# Altium footprint library 19inch.PCBLIB: 26 footprints (part 2 of 3)
Each footprint in its own frame and in the unit in brackets; x right, y up, seen from the top. Pads: shape width x height; smd on the part's side, far side on the other; paste and mask are expansions set on the pad; w line width, h text height; cw(c..) or ccw(c..) is an arc to the next point about the centre after c.
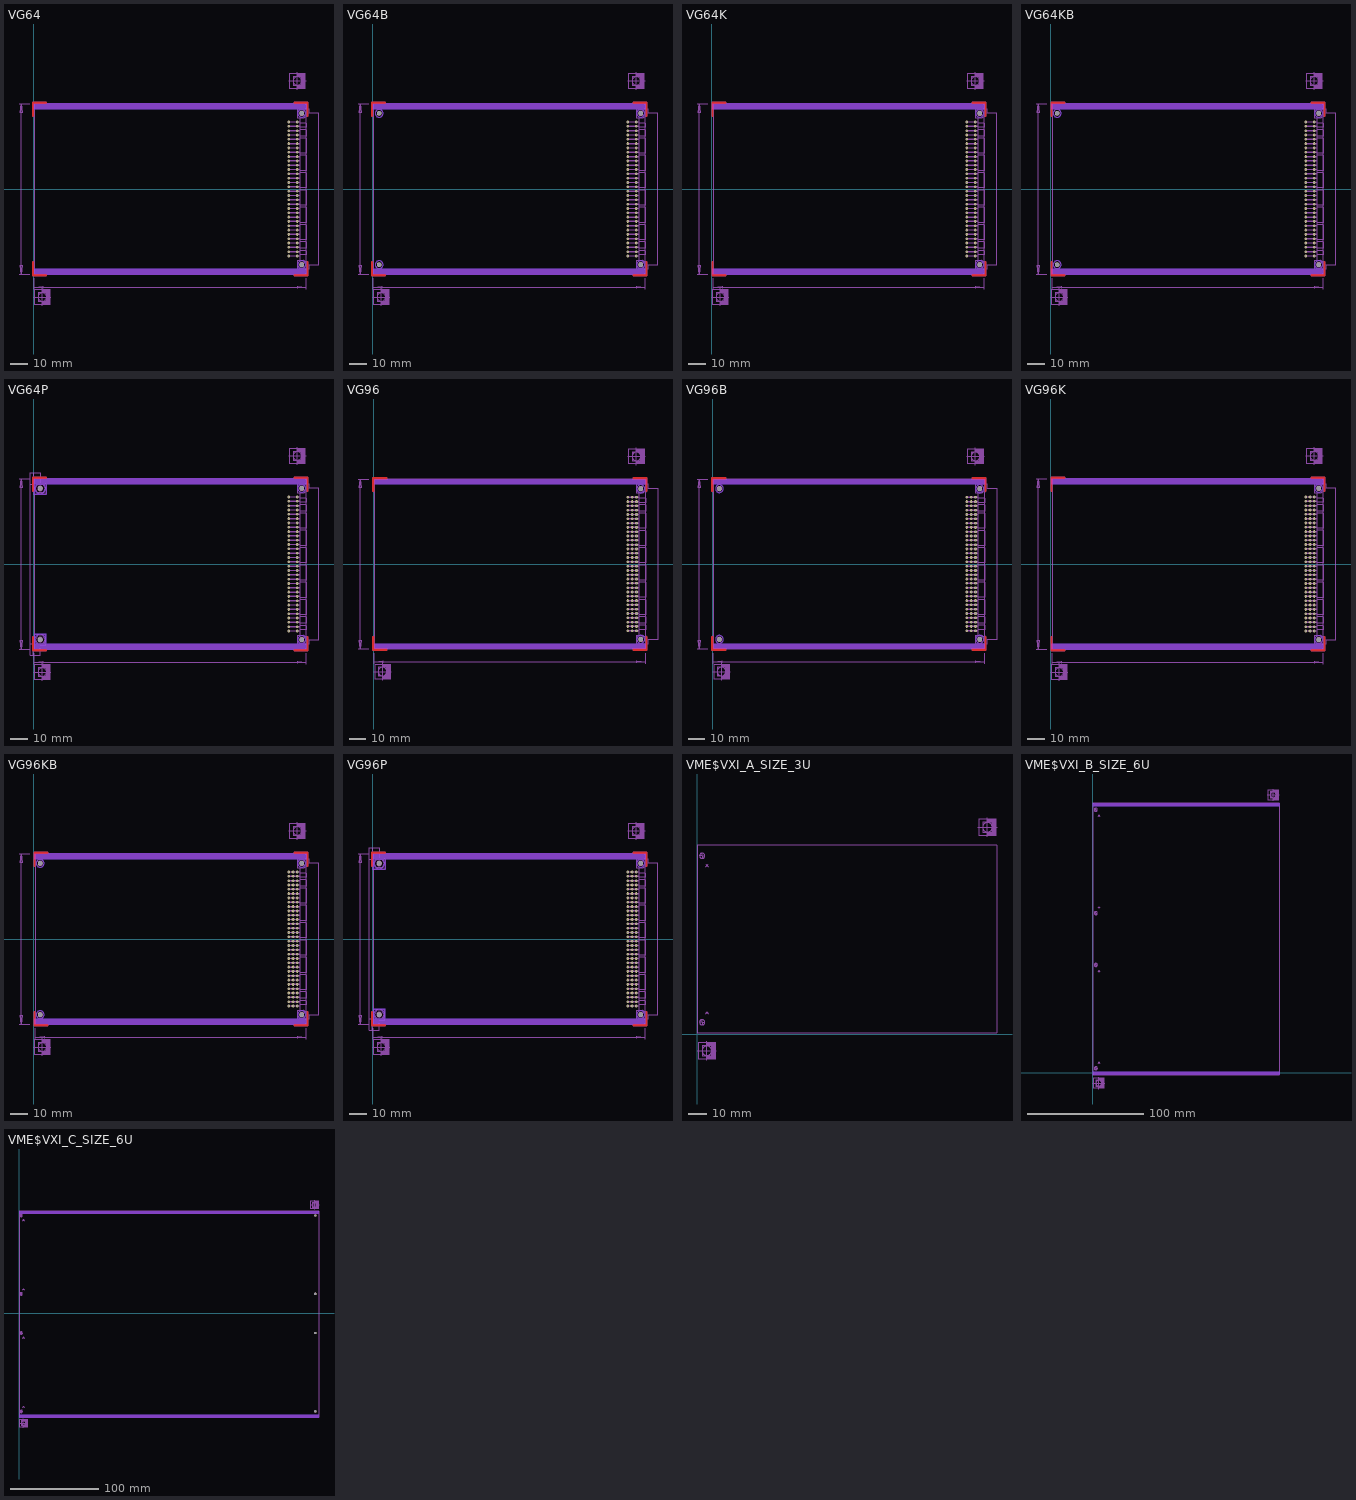
[diagram p1: the footprints below, top view; thin cyan lines are the x and y axes]

## VG64 [mil]
pads (66):
  round 63 hole 36: A1(6100,1550)
  oct 63x63 / inner round 58.2 / far side oct 63x63 hole 36: A2(6100,1450) A3(6100,1350) A4(6100,1250) A5(6100,1150) A6(6100,1050) A7(6100,950) A8(6100,850) A9(6100,750) A10(6100,650) A11(6100,550) A12(6100,450) A13(6100,350) A14(6100,250) A15(6100,150) A16(6100,50) A17(6100,-50) A18(6100,-150) A19(6100,-250) A20(6100,-350) A21(6100,-450) A22(6100,-550) A23(6100,-650) A24(6100,-750) A25(6100,-850) A26(6100,-950) A27(6100,-1050) A28(6100,-1150) A29(6100,-1250) A30(6100,-1350) A31(6100,-1450) A32(6100,-1550) C1(5900,1550) C2(5900,1450) C3(5900,1350) C4(5900,1250) C5(5900,1150) C6(5900,1050) C7(5900,950) C8(5900,850) C9(5900,750) C10(5900,650) C11(5900,550) C12(5900,450) C13(5900,350) C14(5900,250) C15(5900,150) C16(5900,50) C17(5900,-50) C18(5900,-150) C19(5900,-250) C20(5900,-350) C21(5900,-450) C22(5900,-550) C23(5900,-650) C24(5900,-750) C25(5900,-850) C26(5900,-950) C27(5900,-1050) C28(5900,-1150) C29(5900,-1250) C30(5900,-1350) C31(5900,-1450) C32(5900,-1550)
  round 110 hole 110 unplated: MH1(6200,1750) MH2(6200,-1750)
Top:
  lines w50: -15,-1694 -15,-1994 285,-1994 ; -15,1694 -15,1994 285,1994 ; 6035,-1994 6335,-1994 6335,-1694 ; 6035,1994 6335,1994 6335,1694
Top keep-out:
  circle w0: c6200,1750 r90
  circle w0: c6200,-1750 r90
  region: 10,1850 10,1969 6310,1969 6310,1850
  region: 10,-1969 10,-1850 6310,-1850 6310,-1969
  region: 10,1850 10,1969 6310,1969 6310,1850
  region: 10,-1969 10,-1850 6310,-1850 6310,-1969
  lines w2: 10,-1969 10,-1850 ; 10,1850 10,1969 ; 6310,-1969 6310,-1850 ; 6310,1850 6310,1969
Bottom:
  lines w50: -15,-1694 -15,-1994 285,-1994 ; -15,1694 -15,1994 285,1994 ; 6035,-1994 6335,-1994 6335,-1694 ; 6035,1994 6335,1994 6335,1694
Bottom keep-out:
  circle w0: c6200,1750 r90
  circle w0: c6200,-1750 r90
  region: 10,1850 10,1969 6310,1969 6310,1850
  region: 10,-1969 10,-1850 6310,-1850 6310,-1969
  lines w2: 10,-1969 10,-1850 ; 10,1850 10,1969 ; 6310,-1969 6310,-1850 ; 6310,1850 6310,1969
Top Solder:
  lines w6: 10,-1669 10,-1969 310,-1969 ; 10,1669 10,1969 310,1969 ; 6010,-1969 6310,-1969 6310,-1669 ; 6010,1969 6310,1969 6310,1669
Bottom Solder:
  lines w6: 10,-1669 10,-1969 310,-1969 ; 10,1669 10,1969 310,1969 ; 6010,-1969 6310,-1969 6310,-1669 ; 6010,1969 6310,1969 6310,1669
Dimension:
  lines w0: 10,-1969 6310,-1969 6310,1969 10,1969 10,-1969
tDocu:
  drawing of 64 lines, arcs and shapes, not listed
tPlace:
  drawing of 136 lines, arcs and shapes, not listed
  text "C" at 5900,1600 h77.5
  text "A" at 6050,1600 h77.5
  text "1" at 6200,1550 h77.5
  text "DIN 41612" at 6425,1050 h108.5
  text "Bauform C" at 6525,1050 h108.5
  text "32" at 6200,-1600 h77.5
Measures:
  lines w6: -340,-1969 -290,-1969 ; -340,1969 -290,1969 ; -90,-1969 -290,-1969 ; -90,1969 -290,1969 ; 10,-2319 10,-2269 ; 10,-2069 10,-2269 ; 10,-1669 10,-1969 310,-1969 ; 10,1669 10,1969 310,1969 ; 6010,-1969 6310,-1969 6310,-1669 ; 6010,1969 6310,1969 6310,1669 ; 6310,-2319 6310,-2269 ; 6310,-2069 6310,-2269 ; -290,-1969 -290,1969 ; -290,-1969 -315,-1769 -265,-1769 -290,-1969 ; -290,1969 -265,1769 -315,1769 -290,1969 ; 10,-2269 6310,-2269 ; 10,-2269 210,-2244 210,-2294 10,-2269 ; 6310,-2269 6110,-2294 6110,-2244 6310,-2269
  text "100 -0,3mm" at -340,-700 h155
  text "160 -0,3mm" at 2785,-2225 h155
Reference:
  circle w10: c6100,2499 r100
  circle w10: c200,-2499 r100
  region: 6100,2324 6100,2399 6275,2399 6275,2324
  region: 6200,2399 6200,2599 6275,2599 6275,2399
  region: 6100,2599 6100,2674 6275,2674 6275,2599
  region: 200,-2674 200,-2599 375,-2599 375,-2674
  region: 300,-2599 300,-2399 375,-2399 375,-2599
  region: 200,-2399 200,-2324 375,-2324 375,-2399
  lines w4: 0,-2499 25,-2499 400,-2499 ; 200,-2699 200,-2299 ; 5900,2499 5925,2499 6300,2499 ; 6100,2299 6100,2699
  lines w10: 25,-2674 375,-2674 375,-2324 25,-2324 25,-2499 25,-2674 ; 100,-2599 100,-2399 300,-2399 300,-2599 100,-2599 ; 5925,2324 6275,2324 6275,2674 5925,2674 5925,2499 5925,2324 ; 6000,2399 6000,2599 6200,2599 6200,2399 6000,2399

## VG64B [mil]
pads (68):
  round 63 hole 36: A1(6100,1550)
  oct 63x63 / inner round 58.2 / far side oct 63x63 hole 36: A2(6100,1450) A3(6100,1350) A4(6100,1250) A5(6100,1150) A6(6100,1050) A7(6100,950) A8(6100,850) A9(6100,750) A10(6100,650) A11(6100,550) A12(6100,450) A13(6100,350) A14(6100,250) A15(6100,150) A16(6100,50) A17(6100,-50) A18(6100,-150) A19(6100,-250) A20(6100,-350) A21(6100,-450) A22(6100,-550) A23(6100,-650) A24(6100,-750) A25(6100,-850) A26(6100,-950) A27(6100,-1050) A28(6100,-1150) A29(6100,-1250) A30(6100,-1350) A31(6100,-1450) A32(6100,-1550) C1(5900,1550) C2(5900,1450) C3(5900,1350) C4(5900,1250) C5(5900,1150) C6(5900,1050) C7(5900,950) C8(5900,850) C9(5900,750) C10(5900,650) C11(5900,550) C12(5900,450) C13(5900,350) C14(5900,250) C15(5900,150) C16(5900,50) C17(5900,-50) C18(5900,-150) C19(5900,-250) C20(5900,-350) C21(5900,-450) C22(5900,-550) C23(5900,-650) C24(5900,-750) C25(5900,-850) C26(5900,-950) C27(5900,-1050) C28(5900,-1150) C29(5900,-1250) C30(5900,-1350) C31(5900,-1450) C32(5900,-1550)
  round 110 hole 110 unplated: MH1(6200,1750) MH2(6200,-1750) MH3(150,-1750) MH4(150,1750)
Top:
  lines w50: -15,-1694 -15,-1994 285,-1994 ; -15,1694 -15,1994 285,1994 ; 6035,-1994 6335,-1994 6335,-1694 ; 6035,1994 6335,1994 6335,1694
Top keep-out:
  circle w0: c6200,1750 r90
  circle w0: c6200,-1750 r90
  circle w0: c150,-1750 r90
  circle w0: c150,1750 r90
  region: 10,1850 10,1969 6310,1969 6310,1850
  region: 10,-1969 10,-1850 6310,-1850 6310,-1969
  region: 10,1850 10,1969 6310,1969 6310,1850
  region: 10,-1969 10,-1850 6310,-1850 6310,-1969
  lines w2: 10,-1969 10,-1850 ; 10,1850 10,1969 ; 6310,-1969 6310,-1850 ; 6310,1850 6310,1969
Bottom:
  lines w50: -15,-1694 -15,-1994 285,-1994 ; -15,1694 -15,1994 285,1994 ; 6035,-1994 6335,-1994 6335,-1694 ; 6035,1994 6335,1994 6335,1694
Bottom keep-out:
  circle w0: c6200,1750 r90
  circle w0: c6200,-1750 r90
  circle w0: c150,-1750 r90
  circle w0: c150,1750 r90
  region: 10,1850 10,1969 6310,1969 6310,1850
  region: 10,-1969 10,-1850 6310,-1850 6310,-1969
  lines w2: 10,-1969 10,-1850 ; 10,1850 10,1969 ; 6310,-1969 6310,-1850 ; 6310,1850 6310,1969
Top Solder:
  lines w6: 10,-1669 10,-1969 310,-1969 ; 10,1669 10,1969 310,1969 ; 6010,-1969 6310,-1969 6310,-1669 ; 6010,1969 6310,1969 6310,1669
Bottom Solder:
  lines w6: 10,-1669 10,-1969 310,-1969 ; 10,1669 10,1969 310,1969 ; 6010,-1969 6310,-1969 6310,-1669 ; 6010,1969 6310,1969 6310,1669
Dimension:
  lines w0: 10,-1969 6310,-1969 6310,1969 10,1969 10,-1969
tDocu:
  drawing of 64 lines, arcs and shapes, not listed
tPlace:
  drawing of 136 lines, arcs and shapes, not listed
  text "C" at 5900,1600 h77.5
  text "A" at 6050,1600 h77.5
  text "1" at 6200,1550 h77.5
  text "DIN 41612" at 6425,1050 h108.5
  text "Bauform C" at 6525,1050 h108.5
  text "32" at 6200,-1600 h77.5
Measures:
  lines w6: -340,-1969 -290,-1969 ; -340,1969 -290,1969 ; -90,-1969 -290,-1969 ; -90,1969 -290,1969 ; 10,-2319 10,-2269 ; 10,-2069 10,-2269 ; 10,-1669 10,-1969 310,-1969 ; 10,1669 10,1969 310,1969 ; 6010,-1969 6310,-1969 6310,-1669 ; 6010,1969 6310,1969 6310,1669 ; 6310,-2319 6310,-2269 ; 6310,-2069 6310,-2269 ; -290,-1969 -290,1969 ; -290,-1969 -315,-1769 -265,-1769 -290,-1969 ; -290,1969 -265,1769 -315,1769 -290,1969 ; 10,-2269 6310,-2269 ; 10,-2269 210,-2244 210,-2294 10,-2269 ; 6310,-2269 6110,-2294 6110,-2244 6310,-2269
  text "100 -0,3mm" at -340,-700 h155
  text "160 -0,3mm" at 2785,-2225 h155
Reference:
  circle w10: c6100,2499 r100
  circle w10: c200,-2499 r100
  region: 6100,2324 6100,2399 6275,2399 6275,2324
  region: 6200,2399 6200,2599 6275,2599 6275,2399
  region: 6100,2599 6100,2674 6275,2674 6275,2599
  region: 200,-2674 200,-2599 375,-2599 375,-2674
  region: 300,-2599 300,-2399 375,-2399 375,-2599
  region: 200,-2399 200,-2324 375,-2324 375,-2399
  lines w4: 0,-2499 25,-2499 400,-2499 ; 200,-2699 200,-2299 ; 5900,2499 5925,2499 6300,2499 ; 6100,2299 6100,2699
  lines w10: 25,-2674 375,-2674 375,-2324 25,-2324 25,-2499 25,-2674 ; 100,-2599 100,-2399 300,-2399 300,-2599 100,-2599 ; 5925,2324 6275,2324 6275,2674 5925,2674 5925,2499 5925,2324 ; 6000,2399 6000,2599 6200,2599 6200,2399 6000,2399

## VG64K [mil]
pads (66):
  round 63 hole 36: A1(6100,1550)
  oct 63x63 / inner round 58.2 / far side oct 63x63 hole 36: A2(6100,1450) A3(6100,1350) A4(6100,1250) A5(6100,1150) A6(6100,1050) A7(6100,950) A8(6100,850) A9(6100,750) A10(6100,650) A11(6100,550) A12(6100,450) A13(6100,350) A14(6100,250) A15(6100,150) A16(6100,50) A17(6100,-50) A18(6100,-150) A19(6100,-250) A20(6100,-350) A21(6100,-450) A22(6100,-550) A23(6100,-650) A24(6100,-750) A25(6100,-850) A26(6100,-950) A27(6100,-1050) A28(6100,-1150) A29(6100,-1250) A30(6100,-1350) A31(6100,-1450) A32(6100,-1550) C1(5900,1550) C2(5900,1450) C3(5900,1350) C4(5900,1250) C5(5900,1150) C6(5900,1050) C7(5900,950) C8(5900,850) C9(5900,750) C10(5900,650) C11(5900,550) C12(5900,450) C13(5900,350) C14(5900,250) C15(5900,150) C16(5900,50) C17(5900,-50) C18(5900,-150) C19(5900,-250) C20(5900,-350) C21(5900,-450) C22(5900,-550) C23(5900,-650) C24(5900,-750) C25(5900,-850) C26(5900,-950) C27(5900,-1050) C28(5900,-1150) C29(5900,-1250) C30(5900,-1350) C31(5900,-1450) C32(5900,-1550)
  round 110 hole 110 unplated: MH1(6200,1750) MH2(6200,-1750)
Top:
  lines w50: 15,-1694 15,-1994 315,-1994 ; 15,1694 15,1994 315,1994 ; 6035,-1994 6335,-1994 6335,-1694 ; 6035,1994 6335,1994 6335,1694
Top keep-out:
  circle w0: c6200,-1750 r90
  circle w0: c6200,1750 r90
  region: 10,1850 10,1969 6310,1969 6310,1850
  region: 10,-1969 10,-1850 6310,-1850 6310,-1969
  region: 10,1850 10,1969 6310,1969 6310,1850
  region: 10,-1969 10,-1850 6310,-1850 6310,-1969
  lines w2: 40,-1969 40,-1850 ; 40,1850 40,1969 ; 6310,-1969 6310,-1850 ; 6310,1850 6310,1969
Bottom:
  lines w50: 15,-1694 15,-1994 315,-1994 ; 15,1694 15,1994 315,1994 ; 6035,-1994 6335,-1994 6335,-1694 ; 6035,1994 6335,1994 6335,1694
Bottom keep-out:
  circle w0: c6200,-1750 r90
  circle w0: c6200,1750 r90
  region: 10,1850 10,1969 6310,1969 6310,1850
  region: 10,-1969 10,-1850 6310,-1850 6310,-1969
  lines w2: 40,-1969 40,-1850 ; 40,1850 40,1969 ; 6310,-1969 6310,-1850 ; 6310,1850 6310,1969
Top Solder:
  lines w6: 40,-1669 40,-1969 340,-1969 ; 40,1669 40,1969 340,1969 ; 6010,-1969 6310,-1969 6310,-1669 ; 6010,1969 6310,1969 6310,1669
Bottom Solder:
  lines w6: 40,-1669 40,-1969 340,-1969 ; 40,1669 40,1969 340,1969 ; 6010,-1969 6310,-1969 6310,-1669 ; 6010,1969 6310,1969 6310,1669
Dimension:
  lines w0: 40,-1969 6310,-1969 6310,1969 40,1969 40,-1969
tDocu:
  drawing of 64 lines, arcs and shapes, not listed
tPlace:
  drawing of 136 lines, arcs and shapes, not listed
  text "C" at 5900,1600 h77.5
  text "A" at 6050,1600 h77.5
  text "1" at 6200,1550 h77.5
  text "DIN 41612" at 6425,1050 h108.5
  text "Bauform C" at 6525,1050 h108.5
  text "32" at 6200,-1600 h77.5
Measures:
  lines w6: -340,-1969 -290,-1969 ; -340,1969 -290,1969 ; -90,-1969 -290,-1969 ; -90,1969 -290,1969 ; 40,-2319 40,-2269 ; 40,-2069 40,-2269 ; 40,-1669 40,-1969 340,-1969 ; 40,1669 40,1969 340,1969 ; 6010,-1969 6310,-1969 6310,-1669 ; 6010,1969 6310,1969 6310,1669 ; 6310,-2319 6310,-2269 ; 6310,-2069 6310,-2269 ; -290,-1969 -290,1969 ; -290,-1969 -315,-1769 -265,-1769 -290,-1969 ; -290,1969 -265,1769 -315,1769 -290,1969 ; 40,-2269 6310,-2269 ; 40,-2269 240,-2244 240,-2294 40,-2269 ; 6310,-2269 6110,-2294 6110,-2244 6310,-2269
  text "100 -0,3mm" at -340,-700 h155
  text "159,3 -0,3mm" at 2785,-2225 h155
Reference:
  circle w10: c6100,2499 r100
  circle w10: c200,-2499 r100
  region: 6100,2324 6100,2399 6275,2399 6275,2324
  region: 6200,2399 6200,2599 6275,2599 6275,2399
  region: 6100,2599 6100,2674 6275,2674 6275,2599
  region: 200,-2674 200,-2599 375,-2599 375,-2674
  region: 300,-2599 300,-2399 375,-2399 375,-2599
  region: 200,-2399 200,-2324 375,-2324 375,-2399
  lines w4: 0,-2499 25,-2499 400,-2499 ; 200,-2699 200,-2299 ; 5900,2499 5925,2499 6300,2499 ; 6100,2299 6100,2699
  lines w10: 25,-2674 375,-2674 375,-2324 25,-2324 25,-2499 25,-2674 ; 100,-2599 100,-2399 300,-2399 300,-2599 100,-2599 ; 5925,2324 6275,2324 6275,2674 5925,2674 5925,2499 5925,2324 ; 6000,2399 6000,2599 6200,2599 6200,2399 6000,2399

## VG64KB [mil]
pads (68):
  round 63 hole 36: A1(6100,1550)
  oct 63x63 / inner round 58.2 / far side oct 63x63 hole 36: A2(6100,1450) A3(6100,1350) A4(6100,1250) A5(6100,1150) A6(6100,1050) A7(6100,950) A8(6100,850) A9(6100,750) A10(6100,650) A11(6100,550) A12(6100,450) A13(6100,350) A14(6100,250) A15(6100,150) A16(6100,50) A17(6100,-50) A18(6100,-150) A19(6100,-250) A20(6100,-350) A21(6100,-450) A22(6100,-550) A23(6100,-650) A24(6100,-750) A25(6100,-850) A26(6100,-950) A27(6100,-1050) A28(6100,-1150) A29(6100,-1250) A30(6100,-1350) A31(6100,-1450) A32(6100,-1550) C1(5900,1550) C2(5900,1450) C3(5900,1350) C4(5900,1250) C5(5900,1150) C6(5900,1050) C7(5900,950) C8(5900,850) C9(5900,750) C10(5900,650) C11(5900,550) C12(5900,450) C13(5900,350) C14(5900,250) C15(5900,150) C16(5900,50) C17(5900,-50) C18(5900,-150) C19(5900,-250) C20(5900,-350) C21(5900,-450) C22(5900,-550) C23(5900,-650) C24(5900,-750) C25(5900,-850) C26(5900,-950) C27(5900,-1050) C28(5900,-1150) C29(5900,-1250) C30(5900,-1350) C31(5900,-1450) C32(5900,-1550)
  round 110 hole 110 unplated: MH1(6200,1750) MH2(6200,-1750) MH3(150,-1750) MH4(150,1750)
Top:
  lines w50: 15,-1694 15,-1994 315,-1994 ; 15,1694 15,1994 315,1994 ; 6035,-1994 6335,-1994 6335,-1694 ; 6035,1994 6335,1994 6335,1694
Top keep-out:
  circle w0: c6200,-1750 r90
  circle w0: c6200,1750 r90
  circle w0: c150,-1750 r90
  circle w0: c150,1750 r90
  region: 10,1850 10,1969 6310,1969 6310,1850
  region: 10,-1969 10,-1850 6310,-1850 6310,-1969
  region: 10,1850 10,1969 6310,1969 6310,1850
  region: 10,-1969 10,-1850 6310,-1850 6310,-1969
  lines w2: 40,-1969 40,-1850 ; 40,1850 40,1969 ; 6310,-1969 6310,-1850 ; 6310,1850 6310,1969
Bottom:
  lines w50: 15,-1694 15,-1994 315,-1994 ; 15,1694 15,1994 315,1994 ; 6035,-1994 6335,-1994 6335,-1694 ; 6035,1994 6335,1994 6335,1694
Bottom keep-out:
  circle w0: c6200,-1750 r90
  circle w0: c6200,1750 r90
  circle w0: c150,-1750 r90
  circle w0: c150,1750 r90
  region: 10,1850 10,1969 6310,1969 6310,1850
  region: 10,-1969 10,-1850 6310,-1850 6310,-1969
  lines w2: 40,-1969 40,-1850 ; 40,1850 40,1969 ; 6310,-1969 6310,-1850 ; 6310,1850 6310,1969
Top Solder:
  lines w6: 40,-1669 40,-1969 340,-1969 ; 40,1669 40,1969 340,1969 ; 6010,-1969 6310,-1969 6310,-1669 ; 6010,1969 6310,1969 6310,1669
Bottom Solder:
  lines w6: 40,-1669 40,-1969 340,-1969 ; 40,1669 40,1969 340,1969 ; 6010,-1969 6310,-1969 6310,-1669 ; 6010,1969 6310,1969 6310,1669
Dimension:
  lines w0: 40,-1969 6310,-1969 6310,1969 40,1969 40,-1969
tDocu:
  drawing of 64 lines, arcs and shapes, not listed
tPlace:
  drawing of 136 lines, arcs and shapes, not listed
  text "C" at 5900,1600 h77.5
  text "A" at 6050,1600 h77.5
  text "1" at 6200,1550 h77.5
  text "DIN 41612" at 6425,1050 h108.5
  text "Bauform C" at 6525,1050 h108.5
  text "32" at 6200,-1600 h77.5
Measures:
  lines w6: -340,-1969 -290,-1969 ; -340,1969 -290,1969 ; -90,-1969 -290,-1969 ; -90,1969 -290,1969 ; 40,-2319 40,-2269 ; 40,-2069 40,-2269 ; 40,-1669 40,-1969 340,-1969 ; 40,1669 40,1969 340,1969 ; 6010,-1969 6310,-1969 6310,-1669 ; 6010,1969 6310,1969 6310,1669 ; 6310,-2319 6310,-2269 ; 6310,-2069 6310,-2269 ; -290,-1969 -290,1969 ; -290,-1969 -315,-1769 -265,-1769 -290,-1969 ; -290,1969 -265,1769 -315,1769 -290,1969 ; 40,-2269 6310,-2269 ; 40,-2269 240,-2244 240,-2294 40,-2269 ; 6310,-2269 6110,-2294 6110,-2244 6310,-2269
  text "100 -0,3mm" at -340,-700 h155
  text "159,3 -0,3mm" at 2785,-2225 h155
Reference:
  circle w10: c6100,2499 r100
  circle w10: c200,-2499 r100
  region: 6100,2324 6100,2399 6275,2399 6275,2324
  region: 6200,2399 6200,2599 6275,2599 6275,2399
  region: 6100,2599 6100,2674 6275,2674 6275,2599
  region: 200,-2674 200,-2599 375,-2599 375,-2674
  region: 300,-2599 300,-2399 375,-2399 375,-2599
  region: 200,-2399 200,-2324 375,-2324 375,-2399
  lines w4: 0,-2499 25,-2499 400,-2499 ; 200,-2699 200,-2299 ; 5900,2499 5925,2499 6300,2499 ; 6100,2299 6100,2699
  lines w10: 25,-2674 375,-2674 375,-2324 25,-2324 25,-2499 25,-2674 ; 100,-2599 100,-2399 300,-2399 300,-2599 100,-2599 ; 5925,2324 6275,2324 6275,2674 5925,2674 5925,2499 5925,2324 ; 6000,2399 6000,2599 6200,2599 6200,2399 6000,2399

## VG64P [mil]
pads (68):
  round 63 hole 36: A1(6100,1550)
  oct 63x63 / inner round 58.2 / far side oct 63x63 hole 36: A2(6100,1450) A3(6100,1350) A4(6100,1250) A5(6100,1150) A6(6100,1050) A7(6100,950) A8(6100,850) A9(6100,750) A10(6100,650) A11(6100,550) A12(6100,450) A13(6100,350) A14(6100,250) A15(6100,150) A16(6100,50) A17(6100,-50) A18(6100,-150) A19(6100,-250) A20(6100,-350) A21(6100,-450) A22(6100,-550) A23(6100,-650) A24(6100,-750) A25(6100,-850) A26(6100,-950) A27(6100,-1050) A28(6100,-1150) A29(6100,-1250) A30(6100,-1350) A31(6100,-1450) A32(6100,-1550) C1(5900,1550) C2(5900,1450) C3(5900,1350) C4(5900,1250) C5(5900,1150) C6(5900,1050) C7(5900,950) C8(5900,850) C9(5900,750) C10(5900,650) C11(5900,550) C12(5900,450) C13(5900,350) C14(5900,250) C15(5900,150) C16(5900,50) C17(5900,-50) C18(5900,-150) C19(5900,-250) C20(5900,-350) C21(5900,-450) C22(5900,-550) C23(5900,-650) C24(5900,-750) C25(5900,-850) C26(5900,-950) C27(5900,-1050) C28(5900,-1150) C29(5900,-1250) C30(5900,-1350) C31(5900,-1450) C32(5900,-1550)
  round 110 hole 110 unplated: MH1(150,1750) MH2(150,-1750) MH3(6200,1750) MH4(6200,-1750)
Top:
  lines w50: -15,-1694 -15,-1994 285,-1994 ; -15,1694 -15,1994 285,1994 ; 6035,-1994 6335,-1994 6335,-1694 ; 6035,1994 6335,1994 6335,1694
Top keep-out:
  circle w0: c150,1750 r125
  circle w0: c150,-1750 r125
  circle w0: c6200,1750 r90
  circle w0: c6200,-1750 r90
  region: 10,1850 10,1969 6310,1969 6310,1850
  region: 10,-1969 10,-1850 6310,-1850 6310,-1969
  region: 10,1850 10,1969 6310,1969 6310,1850
  region: 10,-1969 10,-1850 6310,-1850 6310,-1969
  lines w2: 10,-1969 10,-1615 285,-1615 285,-1850 ; 10,1969 10,1615 285,1615 285,1850 ; 6310,-1969 6310,-1850 ; 6310,1850 6310,1969
Bottom:
  lines w50: -15,-1694 -15,-1994 285,-1994 ; -15,1694 -15,1994 285,1994 ; 6035,-1994 6335,-1994 6335,-1694 ; 6035,1994 6335,1994 6335,1694
Bottom keep-out:
  circle w0: c150,1750 r125
  circle w0: c150,-1750 r125
  circle w0: c6200,1750 r90
  circle w0: c6200,-1750 r90
  region: 10,1850 10,1969 6310,1969 6310,1850
  region: 10,-1969 10,-1850 6310,-1850 6310,-1969
  lines w2: 10,-1969 10,-1615 285,-1615 285,-1850 ; 10,1969 10,1615 285,1615 285,1850 ; 6310,-1969 6310,-1850 ; 6310,1850 6310,1969
Top Solder:
  lines w6: 10,-1669 10,-1969 310,-1969 ; 10,1669 10,1969 310,1969 ; 6010,-1969 6310,-1969 6310,-1669 ; 6010,1969 6310,1969 6310,1669
Bottom Solder:
  lines w6: 10,-1669 10,-1969 310,-1969 ; 10,1669 10,1969 310,1969 ; 6010,-1969 6310,-1969 6310,-1669 ; 6010,1969 6310,1969 6310,1669
Dimension:
  lines w0: 10,-1969 6310,-1969 6310,1969 10,1969 10,-1969
tDocu:
  drawing of 64 lines, arcs and shapes, not listed
tPlace:
  drawing of 170 lines, arcs and shapes, not listed
  text "C" at 5900,1600 h77.5
  text "A" at 6050,1600 h77.5
  text "1" at 6200,1550 h77.5
  text "DIN 41612" at 6425,1050 h108.5
  text "Bauform C" at 6525,1050 h108.5
  text "32" at 6200,-1600 h77.5
Measures:
  lines w6: -340,-1969 -290,-1969 ; -340,1969 -290,1969 ; -90,-1969 -290,-1969 ; -90,1969 -290,1969 ; 10,-2319 10,-2269 ; 10,-2069 10,-2269 ; 10,-1669 10,-1969 310,-1969 ; 10,1669 10,1969 310,1969 ; 6010,-1969 6310,-1969 6310,-1669 ; 6010,1969 6310,1969 6310,1669 ; 6310,-2319 6310,-2269 ; 6310,-2069 6310,-2269 ; -290,-1969 -290,1969 ; -290,-1969 -315,-1769 -265,-1769 -290,-1969 ; -290,1969 -265,1769 -315,1769 -290,1969 ; 10,-2269 6310,-2269 ; 10,-2269 210,-2244 210,-2294 10,-2269 ; 6310,-2269 6110,-2294 6110,-2244 6310,-2269
  text "100 -0,3mm" at -340,-700 h155
  text "160 -0,3mm" at 2785,-2225 h155
Reference:
  circle w10: c6100,2499 r100
  circle w10: c200,-2499 r100
  region: 6100,2324 6100,2399 6275,2399 6275,2324
  region: 6200,2399 6200,2599 6275,2599 6275,2399
  region: 6100,2599 6100,2674 6275,2674 6275,2599
  region: 200,-2674 200,-2599 375,-2599 375,-2674
  region: 300,-2599 300,-2399 375,-2399 375,-2599
  region: 200,-2399 200,-2324 375,-2324 375,-2399
  lines w4: 0,-2499 25,-2499 400,-2499 ; 200,-2699 200,-2299 ; 5900,2499 5925,2499 6300,2499 ; 6100,2299 6100,2699
  lines w10: 25,-2674 375,-2674 375,-2324 25,-2324 25,-2499 25,-2674 ; 100,-2599 100,-2399 300,-2399 300,-2599 100,-2599 ; 5925,2324 6275,2324 6275,2674 5925,2674 5925,2499 5925,2324 ; 6000,2399 6000,2599 6200,2599 6200,2399 6000,2399

## VG96 [mil]
pads (98):
  round 63 hole 36: A1(6100,1550)
  oct 63x63 / inner round 58.2 / far side oct 63x63 hole 36: A2(6100,1450) A3(6100,1350) A4(6100,1250) A5(6100,1150) A6(6100,1050) A7(6100,950) A8(6100,850) A9(6100,750) A10(6100,650) A11(6100,550) A12(6100,450) A13(6100,350) A14(6100,250) A15(6100,150) A16(6100,50) A17(6100,-50) A18(6100,-150) A19(6100,-250) A20(6100,-350) A21(6100,-450) A22(6100,-550) A23(6100,-650) A24(6100,-750) A25(6100,-850) A26(6100,-950) A27(6100,-1050) A28(6100,-1150) A29(6100,-1250) A30(6100,-1350) A31(6100,-1450) A32(6100,-1550) B1(6000,1550) B2(6000,1450) B3(6000,1350) B4(6000,1250) B5(6000,1150) B6(6000,1050) B7(6000,950) B8(6000,850) B9(6000,750) B10(6000,650) B11(6000,550) B12(6000,450) B13(6000,350) B14(6000,250) B15(6000,150) B16(6000,50) B17(6000,-50) B18(6000,-150) B19(6000,-250) B20(6000,-350) B21(6000,-450) B22(6000,-550) B23(6000,-650) B24(6000,-750) B25(6000,-850) B26(6000,-950) B27(6000,-1050) B28(6000,-1150) B29(6000,-1250) B30(6000,-1350) B31(6000,-1450) B32(6000,-1550) C1(5900,1550) C2(5900,1450) C3(5900,1350) C4(5900,1250) C5(5900,1150) C6(5900,1050) C7(5900,950) C8(5900,850) C9(5900,750) C10(5900,650) C11(5900,550) C12(5900,450) C13(5900,350) C14(5900,250) C15(5900,150) C16(5900,50) C17(5900,-50) C18(5900,-150) C19(5900,-250) C20(5900,-350) C21(5900,-450) C22(5900,-550) C23(5900,-650) C24(5900,-750) C25(5900,-850) C26(5900,-950) C27(5900,-1050) C28(5900,-1150) C29(5900,-1250) C30(5900,-1350) C31(5900,-1450) C32(5900,-1550)
  round 110 hole 110 unplated: MH1(6200,1750) MH2(6200,-1750)
Top:
  lines w50: -15,-1694 -15,-1994 285,-1994 ; -15,1694 -15,1994 285,1994 ; 6035,-1994 6335,-1994 6335,-1694 ; 6035,1994 6335,1994 6335,1694
Top keep-out:
  circle w0: c6200,-1750 r90
  circle w0: c6200,1750 r90
  region: 10,1850 10,1969 6310,1969 6310,1850
  region: 10,-1969 10,-1850 6310,-1850 6310,-1969
  region: 10,1850 10,1969 6310,1969 6310,1850
  region: 10,-1969 10,-1850 6310,-1850 6310,-1969
  lines w2: 6310,-1969 6310,-1850 ; 6310,1850 6310,1969
Bottom:
  lines w50: -15,-1694 -15,-1994 285,-1994 ; -15,1694 -15,1994 285,1994 ; 6035,-1994 6335,-1994 6335,-1694 ; 6035,1994 6335,1994 6335,1694
Bottom keep-out:
  circle w0: c6200,-1750 r90
  circle w0: c6200,1750 r90
  region: 10,1850 10,1969 6310,1969 6310,1850
  region: 10,-1969 10,-1850 6310,-1850 6310,-1969
  lines w2: 6310,-1969 6310,-1850 ; 6310,1850 6310,1969
Top Solder:
  lines w6: 10,-1669 10,-1969 310,-1969 ; 10,1669 10,1969 310,1969 ; 6010,-1969 6310,-1969 6310,-1669 ; 6010,1969 6310,1969 6310,1669
Bottom Solder:
  lines w6: 10,-1669 10,-1969 310,-1969 ; 10,1669 10,1969 310,1969 ; 6010,-1969 6310,-1969 6310,-1669 ; 6010,1969 6310,1969 6310,1669
Dimension:
  lines w0: 10,-1969 6310,-1969 6310,1969 10,1969 10,-1969
tDocu:
  drawing of 96 lines, arcs and shapes, not listed
tPlace:
  drawing of 168 lines, arcs and shapes, not listed
  text "C" at 5900,1600 h77.5
  text "A" at 6050,1600 h77.5
  text "1" at 6200,1550 h77.5
  text "DIN 41612" at 6425,1050 h108.5
  text "Bauform C" at 6525,1050 h108.5
  text "32" at 6200,-1600 h77.5
  text "B" at 5975,1600 h77.5
Measures:
  lines w6: -370,-1969 -320,-1969 ; -370,1969 -320,1969 ; -120,-1969 -320,-1969 ; -120,1969 -320,1969 ; 10,-2319 10,-2269 ; 10,-2069 10,-2269 ; 10,-1669 10,-1969 310,-1969 ; 10,1669 10,1969 310,1969 ; 6010,-1969 6310,-1969 6310,-1669 ; 6010,1969 6310,1969 6310,1669 ; 6310,-2319 6310,-2269 ; 6310,-2069 6310,-2269 ; -320,-1969 -320,1969 ; -320,-1969 -345,-1769 -295,-1769 -320,-1969 ; -320,1969 -295,1769 -345,1769 -320,1969 ; 10,-2269 6310,-2269 ; 10,-2269 210,-2244 210,-2294 10,-2269 ; 6310,-2269 6110,-2294 6110,-2244 6310,-2269
  text "100 -0,3mm" at -340,-700 h155
  text "160 -0,3mm" at 2785,-2225 h155
Reference:
  circle w10: c6100,2499 r100
  circle w10: c200,-2499 r100
  region: 6100,2324 6100,2399 6275,2399 6275,2324
  region: 6200,2399 6200,2599 6275,2599 6275,2399
  region: 6100,2599 6100,2674 6275,2674 6275,2599
  region: 200,-2674 200,-2599 375,-2599 375,-2674
  region: 300,-2599 300,-2399 375,-2399 375,-2599
  region: 200,-2399 200,-2324 375,-2324 375,-2399
  lines w4: 0,-2499 25,-2499 400,-2499 ; 200,-2699 200,-2299 ; 5900,2499 5925,2499 6300,2499 ; 6100,2299 6100,2699
  lines w10: 25,-2674 375,-2674 375,-2324 25,-2324 25,-2499 25,-2674 ; 100,-2599 100,-2399 300,-2399 300,-2599 100,-2599 ; 5925,2324 6275,2324 6275,2674 5925,2674 5925,2499 5925,2324 ; 6000,2399 6000,2599 6200,2599 6200,2399 6000,2399

## VG96B [mil]
pads (100):
  round 63 hole 36: A1(6100,1550)
  oct 63x63 / inner round 58.2 / far side oct 63x63 hole 36: A2(6100,1450) A3(6100,1350) A4(6100,1250) A5(6100,1150) A6(6100,1050) A7(6100,950) A8(6100,850) A9(6100,750) A10(6100,650) A11(6100,550) A12(6100,450) A13(6100,350) A14(6100,250) A15(6100,150) A16(6100,50) A17(6100,-50) A18(6100,-150) A19(6100,-250) A20(6100,-350) A21(6100,-450) A22(6100,-550) A23(6100,-650) A24(6100,-750) A25(6100,-850) A26(6100,-950) A27(6100,-1050) A28(6100,-1150) A29(6100,-1250) A30(6100,-1350) A31(6100,-1450) A32(6100,-1550) B1(6000,1550) B2(6000,1450) B3(6000,1350) B4(6000,1250) B5(6000,1150) B6(6000,1050) B7(6000,950) B8(6000,850) B9(6000,750) B10(6000,650) B11(6000,550) B12(6000,450) B13(6000,350) B14(6000,250) B15(6000,150) B16(6000,50) B17(6000,-50) B18(6000,-150) B19(6000,-250) B20(6000,-350) B21(6000,-450) B22(6000,-550) B23(6000,-650) B24(6000,-750) B25(6000,-850) B26(6000,-950) B27(6000,-1050) B28(6000,-1150) B29(6000,-1250) B30(6000,-1350) B31(6000,-1450) B32(6000,-1550) C1(5900,1550) C2(5900,1450) C3(5900,1350) C4(5900,1250) C5(5900,1150) C6(5900,1050) C7(5900,950) C8(5900,850) C9(5900,750) C10(5900,650) C11(5900,550) C12(5900,450) C13(5900,350) C14(5900,250) C15(5900,150) C16(5900,50) C17(5900,-50) C18(5900,-150) C19(5900,-250) C20(5900,-350) C21(5900,-450) C22(5900,-550) C23(5900,-650) C24(5900,-750) C25(5900,-850) C26(5900,-950) C27(5900,-1050) C28(5900,-1150) C29(5900,-1250) C30(5900,-1350) C31(5900,-1450) C32(5900,-1550)
  round 110 hole 110 unplated: MH1(6200,1750) MH2(6200,-1750) MH3(150,1750) MH4(150,-1750)
Top:
  lines w50: -15,-1694 -15,-1994 285,-1994 ; -15,1694 -15,1994 285,1994 ; 6035,-1994 6335,-1994 6335,-1694 ; 6035,1994 6335,1994 6335,1694
Top keep-out:
  circle w0: c6200,-1750 r90
  circle w0: c6200,1750 r90
  circle w0: c150,-1750 r90
  circle w0: c150,1750 r90
  region: 10,1850 10,1969 6310,1969 6310,1850
  region: 10,-1969 10,-1850 6310,-1850 6310,-1969
  region: 10,1850 10,1969 6310,1969 6310,1850
  region: 10,-1969 10,-1850 6310,-1850 6310,-1969
  lines w2: 10,-1969 10,-1850 ; 10,1850 10,1969 ; 6310,-1969 6310,-1850 ; 6310,1850 6310,1969
Bottom:
  lines w50: -15,-1694 -15,-1994 285,-1994 ; -15,1694 -15,1994 285,1994 ; 6035,-1994 6335,-1994 6335,-1694 ; 6035,1994 6335,1994 6335,1694
Bottom keep-out:
  circle w0: c6200,-1750 r90
  circle w0: c6200,1750 r90
  circle w0: c150,-1750 r90
  circle w0: c150,1750 r90
  region: 10,1850 10,1969 6310,1969 6310,1850
  region: 10,-1969 10,-1850 6310,-1850 6310,-1969
  lines w2: 10,-1969 10,-1850 ; 10,1850 10,1969 ; 6310,-1969 6310,-1850 ; 6310,1850 6310,1969
Top Solder:
  lines w6: 10,-1669 10,-1969 310,-1969 ; 10,1669 10,1969 310,1969 ; 6010,-1969 6310,-1969 6310,-1669 ; 6010,1969 6310,1969 6310,1669
Bottom Solder:
  lines w6: 10,-1669 10,-1969 310,-1969 ; 10,1669 10,1969 310,1969 ; 6010,-1969 6310,-1969 6310,-1669 ; 6010,1969 6310,1969 6310,1669
Dimension:
  lines w0: 10,-1969 6310,-1969 6310,1969 10,1969 10,-1969
tDocu:
  drawing of 96 lines, arcs and shapes, not listed
tPlace:
  drawing of 170 lines, arcs and shapes, not listed
  text "C" at 5900,1600 h77.5
  text "A" at 6050,1600 h77.5
  text "1" at 6200,1550 h77.5
  text "DIN 41612" at 6425,1050 h108.5
  text "Bauform C" at 6525,1050 h108.5
  text "32" at 6200,-1600 h77.5
  text "B" at 5975,1600 h77.5
Measures:
  lines w6: -370,-1969 -320,-1969 ; -370,1969 -320,1969 ; -120,-1969 -320,-1969 ; -120,1969 -320,1969 ; 10,-2319 10,-2269 ; 10,-2069 10,-2269 ; 10,-1669 10,-1969 310,-1969 ; 10,1669 10,1969 310,1969 ; 6010,-1969 6310,-1969 6310,-1669 ; 6010,1969 6310,1969 6310,1669 ; 6310,-2319 6310,-2269 ; 6310,-2069 6310,-2269 ; -320,-1969 -320,1969 ; -320,-1969 -345,-1769 -295,-1769 -320,-1969 ; -320,1969 -295,1769 -345,1769 -320,1969 ; 10,-2269 6310,-2269 ; 10,-2269 210,-2244 210,-2294 10,-2269 ; 6310,-2269 6110,-2294 6110,-2244 6310,-2269
  text "100 -0,3mm" at -340,-700 h155
  text "160 -0,3mm" at 2785,-2225 h155
Reference:
  circle w10: c6100,2499 r100
  circle w10: c200,-2499 r100
  region: 6100,2324 6100,2399 6275,2399 6275,2324
  region: 6200,2399 6200,2599 6275,2599 6275,2399
  region: 6100,2599 6100,2674 6275,2674 6275,2599
  region: 200,-2674 200,-2599 375,-2599 375,-2674
  region: 300,-2599 300,-2399 375,-2399 375,-2599
  region: 200,-2399 200,-2324 375,-2324 375,-2399
  lines w4: 0,-2499 25,-2499 400,-2499 ; 200,-2699 200,-2299 ; 5900,2499 5925,2499 6300,2499 ; 6100,2299 6100,2699
  lines w10: 25,-2674 375,-2674 375,-2324 25,-2324 25,-2499 25,-2674 ; 100,-2599 100,-2399 300,-2399 300,-2599 100,-2599 ; 5925,2324 6275,2324 6275,2674 5925,2674 5925,2499 5925,2324 ; 6000,2399 6000,2599 6200,2599 6200,2399 6000,2399

## VG96K [mil]
pads (98):
  round 63 hole 36: A1(6100,1550)
  oct 63x63 / inner round 58.2 / far side oct 63x63 hole 36: A2(6100,1450) A3(6100,1350) A4(6100,1250) A5(6100,1150) A6(6100,1050) A7(6100,950) A8(6100,850) A9(6100,750) A10(6100,650) A11(6100,550) A12(6100,450) A13(6100,350) A14(6100,250) A15(6100,150) A16(6100,50) A17(6100,-50) A18(6100,-150) A19(6100,-250) A20(6100,-350) A21(6100,-450) A22(6100,-550) A23(6100,-650) A24(6100,-750) A25(6100,-850) A26(6100,-950) A27(6100,-1050) A28(6100,-1150) A29(6100,-1250) A30(6100,-1350) A31(6100,-1450) A32(6100,-1550) B1(6000,1550) B2(6000,1450) B3(6000,1350) B4(6000,1250) B5(6000,1150) B6(6000,1050) B7(6000,950) B8(6000,850) B9(6000,750) B10(6000,650) B11(6000,550) B12(6000,450) B13(6000,350) B14(6000,250) B15(6000,150) B16(6000,50) B17(6000,-50) B18(6000,-150) B19(6000,-250) B20(6000,-350) B21(6000,-450) B22(6000,-550) B23(6000,-650) B24(6000,-750) B25(6000,-850) B26(6000,-950) B27(6000,-1050) B28(6000,-1150) B29(6000,-1250) B30(6000,-1350) B31(6000,-1450) B32(6000,-1550) C1(5900,1550) C2(5900,1450) C3(5900,1350) C4(5900,1250) C5(5900,1150) C6(5900,1050) C7(5900,950) C8(5900,850) C9(5900,750) C10(5900,650) C11(5900,550) C12(5900,450) C13(5900,350) C14(5900,250) C15(5900,150) C16(5900,50) C17(5900,-50) C18(5900,-150) C19(5900,-250) C20(5900,-350) C21(5900,-450) C22(5900,-550) C23(5900,-650) C24(5900,-750) C25(5900,-850) C26(5900,-950) C27(5900,-1050) C28(5900,-1150) C29(5900,-1250) C30(5900,-1350) C31(5900,-1450) C32(5900,-1550)
  round 110 hole 110 unplated: MH1(6200,1750) MH2(6200,-1750)
Top:
  lines w50: 15,-1694 15,-1994 315,-1994 ; 15,1694 15,1994 315,1994 ; 6035,-1994 6335,-1994 6335,-1694 ; 6035,1994 6335,1994 6335,1694
Top keep-out:
  circle w0: c6200,-1750 r90
  circle w0: c6200,1750 r90
  region: 10,1850 10,1969 6310,1969 6310,1850
  region: 10,-1969 10,-1850 6310,-1850 6310,-1969
  region: 10,1850 10,1969 6310,1969 6310,1850
  region: 10,-1969 10,-1850 6310,-1850 6310,-1969
  lines w2: 40,-1969 40,-1850 ; 40,1850 40,1969 ; 6310,-1969 6310,-1850 ; 6310,1850 6310,1969
Bottom:
  lines w50: 15,-1694 15,-1994 315,-1994 ; 15,1694 15,1994 315,1994 ; 6035,-1994 6335,-1994 6335,-1694 ; 6035,1994 6335,1994 6335,1694
Bottom keep-out:
  circle w0: c6200,-1750 r90
  circle w0: c6200,1750 r90
  region: 10,1850 10,1969 6310,1969 6310,1850
  region: 10,-1969 10,-1850 6310,-1850 6310,-1969
  lines w2: 40,-1969 40,-1850 ; 40,1850 40,1969 ; 6310,-1969 6310,-1850 ; 6310,1850 6310,1969
Top Solder:
  lines w6: 40,-1669 40,-1969 340,-1969 ; 40,1669 40,1969 340,1969 ; 6010,-1969 6310,-1969 6310,-1669 ; 6010,1969 6310,1969 6310,1669
Bottom Solder:
  lines w6: 40,-1669 40,-1969 340,-1969 ; 40,1669 40,1969 340,1969 ; 6010,-1969 6310,-1969 6310,-1669 ; 6010,1969 6310,1969 6310,1669
Dimension:
  lines w0: 40,-1969 6310,-1969 6310,1969 40,1969 40,-1969
tDocu:
  drawing of 96 lines, arcs and shapes, not listed
tPlace:
  drawing of 168 lines, arcs and shapes, not listed
  text "C" at 5900,1600 h77.5
  text "A" at 6050,1600 h77.5
  text "1" at 6200,1550 h77.5
  text "DIN 41612" at 6425,1050 h108.5
  text "Bauform C" at 6525,1050 h108.5
  text "32" at 6200,-1600 h77.5
  text "B" at 5975,1600 h77.5
Measures:
  lines w6: -340,-1969 -290,-1969 ; -340,1969 -290,1969 ; -90,-1969 -290,-1969 ; -90,1969 -290,1969 ; 40,-2319 40,-2269 ; 40,-2069 40,-2269 ; 40,-1669 40,-1969 340,-1969 ; 40,1669 40,1969 340,1969 ; 6010,-1969 6310,-1969 6310,-1669 ; 6010,1969 6310,1969 6310,1669 ; 6310,-2319 6310,-2269 ; 6310,-2069 6310,-2269 ; -290,-1969 -290,1969 ; -290,-1969 -315,-1769 -265,-1769 -290,-1969 ; -290,1969 -265,1769 -315,1769 -290,1969 ; 40,-2269 6310,-2269 ; 40,-2269 240,-2244 240,-2294 40,-2269 ; 6310,-2269 6110,-2294 6110,-2244 6310,-2269
  text "100 -0,3mm" at -340,-700 h155
  text "159,3 -0,3mm" at 2785,-2225 h155
Reference:
  circle w10: c6100,2499 r100
  circle w10: c200,-2499 r100
  region: 6100,2324 6100,2399 6275,2399 6275,2324
  region: 6200,2399 6200,2599 6275,2599 6275,2399
  region: 6100,2599 6100,2674 6275,2674 6275,2599
  region: 200,-2674 200,-2599 375,-2599 375,-2674
  region: 300,-2599 300,-2399 375,-2399 375,-2599
  region: 200,-2399 200,-2324 375,-2324 375,-2399
  lines w4: 0,-2499 25,-2499 400,-2499 ; 200,-2699 200,-2299 ; 5900,2499 5925,2499 6300,2499 ; 6100,2299 6100,2699
  lines w10: 25,-2674 375,-2674 375,-2324 25,-2324 25,-2499 25,-2674 ; 100,-2599 100,-2399 300,-2399 300,-2599 100,-2599 ; 5925,2324 6275,2324 6275,2674 5925,2674 5925,2499 5925,2324 ; 6000,2399 6000,2599 6200,2599 6200,2399 6000,2399

## VG96KB [mil]
pads (100):
  round 63 hole 36: A1(6100,1550)
  oct 63x63 / inner round 58.2 / far side oct 63x63 hole 36: A2(6100,1450) A3(6100,1350) A4(6100,1250) A5(6100,1150) A6(6100,1050) A7(6100,950) A8(6100,850) A9(6100,750) A10(6100,650) A11(6100,550) A12(6100,450) A13(6100,350) A14(6100,250) A15(6100,150) A16(6100,50) A17(6100,-50) A18(6100,-150) A19(6100,-250) A20(6100,-350) A21(6100,-450) A22(6100,-550) A23(6100,-650) A24(6100,-750) A25(6100,-850) A26(6100,-950) A27(6100,-1050) A28(6100,-1150) A29(6100,-1250) A30(6100,-1350) A31(6100,-1450) A32(6100,-1550) B1(6000,1550) B2(6000,1450) B3(6000,1350) B4(6000,1250) B5(6000,1150) B6(6000,1050) B7(6000,950) B8(6000,850) B9(6000,750) B10(6000,650) B11(6000,550) B12(6000,450) B13(6000,350) B14(6000,250) B15(6000,150) B16(6000,50) B17(6000,-50) B18(6000,-150) B19(6000,-250) B20(6000,-350) B21(6000,-450) B22(6000,-550) B23(6000,-650) B24(6000,-750) B25(6000,-850) B26(6000,-950) B27(6000,-1050) B28(6000,-1150) B29(6000,-1250) B30(6000,-1350) B31(6000,-1450) B32(6000,-1550) C1(5900,1550) C2(5900,1450) C3(5900,1350) C4(5900,1250) C5(5900,1150) C6(5900,1050) C7(5900,950) C8(5900,850) C9(5900,750) C10(5900,650) C11(5900,550) C12(5900,450) C13(5900,350) C14(5900,250) C15(5900,150) C16(5900,50) C17(5900,-50) C18(5900,-150) C19(5900,-250) C20(5900,-350) C21(5900,-450) C22(5900,-550) C23(5900,-650) C24(5900,-750) C25(5900,-850) C26(5900,-950) C27(5900,-1050) C28(5900,-1150) C29(5900,-1250) C30(5900,-1350) C31(5900,-1450) C32(5900,-1550)
  round 110 hole 110 unplated: MH1(6200,1750) MH2(6200,-1750) MH3(150,1750) MH4(150,-1750)
Top:
  lines w50: 15,-1694 15,-1994 315,-1994 ; 15,1694 15,1994 315,1994 ; 6035,-1994 6335,-1994 6335,-1694 ; 6035,1994 6335,1994 6335,1694
Top keep-out:
  circle w0: c6200,-1750 r90
  circle w0: c6200,1750 r90
  circle w0: c150,-1750 r90
  circle w0: c150,1750 r90
  region: 10,1850 10,1969 6310,1969 6310,1850
  region: 10,-1969 10,-1850 6310,-1850 6310,-1969
  region: 10,1850 10,1969 6310,1969 6310,1850
  region: 10,-1969 10,-1850 6310,-1850 6310,-1969
  lines w2: 40,-1969 40,-1850 ; 40,1850 40,1969 ; 6310,-1969 6310,-1850 ; 6310,1850 6310,1969
Bottom:
  lines w50: 15,-1694 15,-1994 315,-1994 ; 15,1694 15,1994 315,1994 ; 6035,-1994 6335,-1994 6335,-1694 ; 6035,1994 6335,1994 6335,1694
Bottom keep-out:
  circle w0: c6200,-1750 r90
  circle w0: c6200,1750 r90
  circle w0: c150,-1750 r90
  circle w0: c150,1750 r90
  region: 10,1850 10,1969 6310,1969 6310,1850
  region: 10,-1969 10,-1850 6310,-1850 6310,-1969
  lines w2: 40,-1969 40,-1850 ; 40,1850 40,1969 ; 6310,-1969 6310,-1850 ; 6310,1850 6310,1969
Top Solder:
  lines w6: 40,-1669 40,-1969 340,-1969 ; 40,1669 40,1969 340,1969 ; 6010,-1969 6310,-1969 6310,-1669 ; 6010,1969 6310,1969 6310,1669
Bottom Solder:
  lines w6: 40,-1669 40,-1969 340,-1969 ; 40,1669 40,1969 340,1969 ; 6010,-1969 6310,-1969 6310,-1669 ; 6010,1969 6310,1969 6310,1669
Dimension:
  lines w0: 40,-1969 6310,-1969 6310,1969 40,1969 40,-1969
tDocu:
  drawing of 96 lines, arcs and shapes, not listed
tPlace:
  drawing of 170 lines, arcs and shapes, not listed
  text "C" at 5900,1600 h77.5
  text "A" at 6050,1600 h77.5
  text "1" at 6200,1550 h77.5
  text "DIN 41612" at 6425,1050 h108.5
  text "Bauform C" at 6525,1050 h108.5
  text "32" at 6200,-1600 h77.5
  text "B" at 5975,1600 h77.5
Measures:
  lines w6: -340,-1969 -290,-1969 ; -340,1969 -290,1969 ; -90,-1969 -290,-1969 ; -90,1969 -290,1969 ; 40,-2319 40,-2269 ; 40,-2069 40,-2269 ; 40,-1669 40,-1969 340,-1969 ; 40,1669 40,1969 340,1969 ; 6010,-1969 6310,-1969 6310,-1669 ; 6010,1969 6310,1969 6310,1669 ; 6310,-2319 6310,-2269 ; 6310,-2069 6310,-2269 ; -290,-1969 -290,1969 ; -290,-1969 -315,-1769 -265,-1769 -290,-1969 ; -290,1969 -265,1769 -315,1769 -290,1969 ; 40,-2269 6310,-2269 ; 40,-2269 240,-2244 240,-2294 40,-2269 ; 6310,-2269 6110,-2294 6110,-2244 6310,-2269
  text "100 -0,3mm" at -340,-700 h155
  text "159,3 -0,3mm" at 2785,-2225 h155
Reference:
  circle w10: c6100,2499 r100
  circle w10: c200,-2499 r100
  region: 6100,2324 6100,2399 6275,2399 6275,2324
  region: 6200,2399 6200,2599 6275,2599 6275,2399
  region: 6100,2599 6100,2674 6275,2674 6275,2599
  region: 200,-2674 200,-2599 375,-2599 375,-2674
  region: 300,-2599 300,-2399 375,-2399 375,-2599
  region: 200,-2399 200,-2324 375,-2324 375,-2399
  lines w4: 0,-2499 25,-2499 400,-2499 ; 200,-2699 200,-2299 ; 5900,2499 5925,2499 6300,2499 ; 6100,2299 6100,2699
  lines w10: 25,-2674 375,-2674 375,-2324 25,-2324 25,-2499 25,-2674 ; 100,-2599 100,-2399 300,-2399 300,-2599 100,-2599 ; 5925,2324 6275,2324 6275,2674 5925,2674 5925,2499 5925,2324 ; 6000,2399 6000,2599 6200,2599 6200,2399 6000,2399

## VG96P [mil]
pads (100):
  round 63 hole 36: A1(6100,1550)
  oct 63x63 / inner round 58.2 / far side oct 63x63 hole 36: A2(6100,1450) A3(6100,1350) A4(6100,1250) A5(6100,1150) A6(6100,1050) A7(6100,950) A8(6100,850) A9(6100,750) A10(6100,650) A11(6100,550) A12(6100,450) A13(6100,350) A14(6100,250) A15(6100,150) A16(6100,50) A17(6100,-50) A18(6100,-150) A19(6100,-250) A20(6100,-350) A21(6100,-450) A22(6100,-550) A23(6100,-650) A24(6100,-750) A25(6100,-850) A26(6100,-950) A27(6100,-1050) A28(6100,-1150) A29(6100,-1250) A30(6100,-1350) A31(6100,-1450) A32(6100,-1550) B1(6000,1550) B2(6000,1450) B3(6000,1350) B4(6000,1250) B5(6000,1150) B6(6000,1050) B7(6000,950) B8(6000,850) B9(6000,750) B10(6000,650) B11(6000,550) B12(6000,450) B13(6000,350) B14(6000,250) B15(6000,150) B16(6000,50) B17(6000,-50) B18(6000,-150) B19(6000,-250) B20(6000,-350) B21(6000,-450) B22(6000,-550) B23(6000,-650) B24(6000,-750) B25(6000,-850) B26(6000,-950) B27(6000,-1050) B28(6000,-1150) B29(6000,-1250) B30(6000,-1350) B31(6000,-1450) B32(6000,-1550) C1(5900,1550) C2(5900,1450) C3(5900,1350) C4(5900,1250) C5(5900,1150) C6(5900,1050) C7(5900,950) C8(5900,850) C9(5900,750) C10(5900,650) C11(5900,550) C12(5900,450) C13(5900,350) C14(5900,250) C15(5900,150) C16(5900,50) C17(5900,-50) C18(5900,-150) C19(5900,-250) C20(5900,-350) C21(5900,-450) C22(5900,-550) C23(5900,-650) C24(5900,-750) C25(5900,-850) C26(5900,-950) C27(5900,-1050) C28(5900,-1150) C29(5900,-1250) C30(5900,-1350) C31(5900,-1450) C32(5900,-1550)
  round 110 hole 110 unplated: MH1(150,1750) MH2(150,-1750) MH3(6200,1750) MH4(6200,-1750)
Top:
  lines w50: -15,-1694 -15,-1994 285,-1994 ; -15,1694 -15,1994 285,1994 ; 6035,-1994 6335,-1994 6335,-1694 ; 6035,1994 6335,1994 6335,1694
Top keep-out:
  circle w0: c150,1750 r125
  circle w0: c150,-1750 r125
  circle w0: c6200,1750 r90
  circle w0: c6200,-1750 r90
  region: 10,1850 10,1969 6310,1969 6310,1850
  region: 10,-1969 10,-1850 6310,-1850 6310,-1969
  region: 10,1850 10,1969 6310,1969 6310,1850
  region: 10,-1969 10,-1850 6310,-1850 6310,-1969
  lines w2: 10,-1969 10,-1615 285,-1615 285,-1850 ; 10,1969 10,1615 285,1615 285,1850 ; 6310,-1969 6310,-1850 ; 6310,1850 6310,1969
Bottom:
  lines w50: -15,-1694 -15,-1994 285,-1994 ; -15,1694 -15,1994 285,1994 ; 6035,-1994 6335,-1994 6335,-1694 ; 6035,1994 6335,1994 6335,1694
Bottom keep-out:
  circle w0: c150,1750 r125
  circle w0: c150,-1750 r125
  circle w0: c6200,1750 r90
  circle w0: c6200,-1750 r90
  region: 10,1850 10,1969 6310,1969 6310,1850
  region: 10,-1969 10,-1850 6310,-1850 6310,-1969
  lines w2: 10,-1969 10,-1615 285,-1615 285,-1850 ; 10,1969 10,1615 285,1615 285,1850 ; 6310,-1969 6310,-1850 ; 6310,1850 6310,1969
Top Solder:
  lines w6: 10,-1669 10,-1969 310,-1969 ; 10,1669 10,1969 310,1969 ; 6010,-1969 6310,-1969 6310,-1669 ; 6010,1969 6310,1969 6310,1669
Bottom Solder:
  lines w6: 10,-1669 10,-1969 310,-1969 ; 10,1669 10,1969 310,1969 ; 6010,-1969 6310,-1969 6310,-1669 ; 6010,1969 6310,1969 6310,1669
Dimension:
  lines w0: 10,-1969 6310,-1969 6310,1969 10,1969 10,-1969
tDocu:
  drawing of 96 lines, arcs and shapes, not listed
tPlace:
  drawing of 202 lines, arcs and shapes, not listed
  text "C" at 5900,1600 h77.5
  text "A" at 6050,1600 h77.5
  text "1" at 6200,1550 h77.5
  text "DIN 41612" at 6425,1050 h108.5
  text "Bauform C" at 6525,1050 h108.5
  text "32" at 6200,-1600 h77.5
  text "B" at 5975,1600 h77.5
Measures:
  lines w6: -340,-1969 -290,-1969 ; -340,1969 -290,1969 ; -90,-1969 -290,-1969 ; -90,1969 -290,1969 ; 10,-2319 10,-2269 ; 10,-2069 10,-2269 ; 10,-1669 10,-1969 310,-1969 ; 10,1669 10,1969 310,1969 ; 6010,-1969 6310,-1969 6310,-1669 ; 6010,1969 6310,1969 6310,1669 ; 6310,-2319 6310,-2269 ; 6310,-2069 6310,-2269 ; -290,-1969 -290,1969 ; -290,-1969 -315,-1769 -265,-1769 -290,-1969 ; -290,1969 -265,1769 -315,1769 -290,1969 ; 10,-2269 6310,-2269 ; 10,-2269 210,-2244 210,-2294 10,-2269 ; 6310,-2269 6110,-2294 6110,-2244 6310,-2269
  text "100 -0,3mm" at -340,-700 h155
  text "160 -0,3mm" at 2785,-2225 h155
Reference:
  circle w10: c6100,2499 r100
  circle w10: c200,-2499 r100
  region: 6100,2324 6100,2399 6275,2399 6275,2324
  region: 6200,2399 6200,2599 6275,2599 6275,2399
  region: 6100,2599 6100,2674 6275,2674 6275,2599
  region: 200,-2674 200,-2599 375,-2599 375,-2674
  region: 300,-2599 300,-2399 375,-2399 375,-2599
  region: 200,-2399 200,-2324 375,-2324 375,-2399
  lines w4: 0,-2499 25,-2499 400,-2499 ; 200,-2699 200,-2299 ; 5900,2499 5925,2499 6300,2499 ; 6100,2299 6100,2699
  lines w10: 25,-2674 375,-2674 375,-2324 25,-2324 25,-2499 25,-2674 ; 100,-2599 100,-2399 300,-2399 300,-2599 100,-2599 ; 5925,2324 6275,2324 6275,2674 5925,2674 5925,2499 5925,2324 ; 6000,2399 6000,2599 6200,2599 6200,2399 6000,2399

## VME$VXI_A_SIZE_3U [mil]
Dimension:
  lines w0: -8.46,31.5 -8.46,3968.5 6290.75,3968.5 6290.75,31.5 -8.46,31.5
Reference:
  circle w0.04: c99.76,3750 r55
  circle w0.04: c99.76,250 r55
  circle w10: c200,-349 r100
  circle w10: c6100,4351 r100
  region: 200,-524 200,-449 375,-449 375,-524
  region: 300,-449 300,-249 375,-249 375,-449
  region: 200,-249 200,-174 375,-174 375,-249
  region: 6100,4176 6100,4251 6275,4251 6275,4176
  region: 6200,4251 6200,4451 6275,4451 6275,4251
  region: 6100,4451 6100,4526 6275,4526 6275,4451
  lines w0: 42.79,250 99.76,250 ; 42.79,3750 99.76,3750 ; 99.76,193.46 99.76,250 ; 99.76,307.64 99.76,250 ; 99.76,3693.46 99.76,3750 ; 99.76,3806.98 99.76,3750 ; 157.18,250 99.76,250 ; 157.4,3750 99.76,3750 ; 175,425 225,475 ; 175,475 225,425 ; 175,3525 225,3575 ; 175,3575 225,3525
  lines w4: 0,-349 25,-349 400,-349 ; 200,-549 200,-149 ; 5900,4351 5925,4351 6300,4351 ; 6100,4151 6100,4551
  lines w10: 25,-524 375,-524 375,-174 25,-174 25,-349 25,-524 ; 100,-449 100,-249 300,-249 300,-449 100,-449 ; 5925,4176 6275,4176 6275,4526 5925,4526 5925,4351 5925,4176 ; 6000,4251 6000,4451 6200,4451 6200,4251 6000,4251

## VME$VXI_B_SIZE_6U [mil]
Top keep-out:
  region: -0.24,9015.57 -0.24,9114 6298.98,9114 6298.98,9015.57
  region: -0.24,-68 -0.24,30.43 6298.98,30.43 6298.98,-68
Bottom keep-out:
  region: -0.24,9015.57 -0.24,9114 6298.98,9114 6298.98,9015.57
  region: -0.24,-68 -0.24,30.43 6298.98,30.43 6298.98,-68
Dimension:
  lines w0: 99.76,8845.43 99.76,8900 155.43,8900 ; -0.24,-68 -0.24,9114 6298.98,9114 6298.98,-68 -0.24,-68
Reference:
  circle w0.04: c99.76,3650 r55
  circle w0.04: c99.76,5400 r55
  circle w0.04: c99.76,8900 r55
  circle w0.04: c99.76,150 r55
  circle w10: c200,-349 r100
  circle w10: c6100,9401 r100
  region: 200,-524 200,-449 375,-449 375,-524
  region: 300,-449 300,-249 375,-249 375,-449
  region: 200,-249 200,-174 375,-174 375,-249
  region: 6100,9226 6100,9301 6275,9301 6275,9226
  region: 6200,9301 6200,9501 6275,9501 6275,9301
  region: 6100,9501 6100,9576 6275,9576 6275,9501
  lines w0: 42.79,150 99.76,150 ; 42.79,3650 99.76,3650 ; 44.76,5400 99.76,5400 ; 44.76,8900 99.76,8900 99.76,8955.01 ; 99.76,93.46 99.76,150 ; 99.76,207.64 99.76,150 ; 99.76,3593.46 99.76,3650 ; 99.76,3706.98 99.76,3650 ; 99.76,5345.43 99.76,5400 ; 99.76,5455.01 99.76,5400 ; 155.43,5400 99.76,5400 ; 157.18,150 99.76,150 ; 157.4,3650 99.76,3650 ; 175,325 225,375 ; 175,375 225,325 ; 175,3425 225,3475 ; 175,3475 225,3425 ; 175,5575 225,5625 ; 175,5625 225,5575 ; 175,8675 225,8725 ; 175,8725 225,8675
  lines w4: 0,-349 25,-349 400,-349 ; 200,-549 200,-149 ; 5900,9401 5925,9401 6300,9401 ; 6100,9201 6100,9601
  lines w10: 25,-524 375,-524 375,-174 25,-174 25,-349 25,-524 ; 100,-449 100,-249 300,-249 300,-449 100,-449 ; 5925,9226 6275,9226 6275,9576 5925,9576 5925,9401 5925,9226 ; 6000,9301 6000,9501 6200,9501 6200,9301 6000,9301

## VME$VXI_C_SIZE_6U [mil]
pads (4):
  round 106.3 hole 106.3 unplated: MH1(13236.77,4375) MH2(13236.77,875) MH3(13236.77,-875) MH4(13236.77,-4375)
Top keep-out:
  region: -0.24,4463.58 -0.24,4562.01 13385.59,4562.01 13385.59,4463.58
  region: 0,-4625 0,-4526.57 13385.83,-4526.57 13385.83,-4625
Bottom keep-out:
  region: -0.24,4463.58 -0.24,4562.01 13385.59,4562.01 13385.59,4463.58
  region: 0,-4625 0,-4526.57 13385.83,-4526.57 13385.83,-4625
Dimension:
  lines w0: 99.76,4320.43 99.76,4375 155.43,4375 ; -0.24,4562.01 0,-4625 13385.83,-4625 13385.59,4562.01 -0.24,4562.01
Reference:
  circle w0.04: c99.76,-875 r55
  circle w0.04: c99.76,875 r55
  circle w0.04: c99.76,4375 r55
  circle w0.04: c99.76,-4375 r55
  circle w10: c200,-4899 r100
  circle w10: c13200,4851 r100
  region: 200,-5074 200,-4999 375,-4999 375,-5074
  region: 300,-4999 300,-4799 375,-4799 375,-4999
  region: 200,-4799 200,-4724 375,-4724 375,-4799
  region: 13200,4676 13200,4751 13375,4751 13375,4676
  region: 13300,4751 13300,4951 13375,4951 13375,4751
  region: 13200,4951 13200,5026 13375,5026 13375,4951
  lines w0: 42.79,-4375 99.76,-4375 ; 42.79,-875 99.76,-875 ; 44.76,875 99.76,875 ; 44.76,4375 99.76,4375 99.76,4430.01 ; 99.76,-4431.54 99.76,-4375 ; 99.76,-4317.36 99.76,-4375 ; 99.76,-931.54 99.76,-875 ; 99.76,-818.02 99.76,-875 ; 99.76,820.43 99.76,875 ; 99.76,930.01 99.76,875 ; 155.43,875 99.76,875 ; 157.18,-4375 99.76,-4375 ; 157.4,-875 99.76,-875 ; 175,-4200 225,-4150 ; 175,-4150 225,-4200 ; 175,-1100 225,-1050 ; 175,-1050 225,-1100 ; 175,1050 225,1100 ; 175,1100 225,1050 ; 175,4150 225,4200 ; 175,4200 225,4150
  lines w4: 0,-4899 25,-4899 400,-4899 ; 200,-5099 200,-4699 ; 13000,4851 13025,4851 13400,4851 ; 13200,4651 13200,5051
  lines w10: 25,-5074 375,-5074 375,-4724 25,-4724 25,-4899 25,-5074 ; 100,-4999 100,-4799 300,-4799 300,-4999 100,-4999 ; 13025,4676 13375,4676 13375,5026 13025,5026 13025,4851 13025,4676 ; 13100,4751 13100,4951 13300,4951 13300,4751 13100,4751